# EAGLE library part IDC8_JTAG_PROZ (library useful)
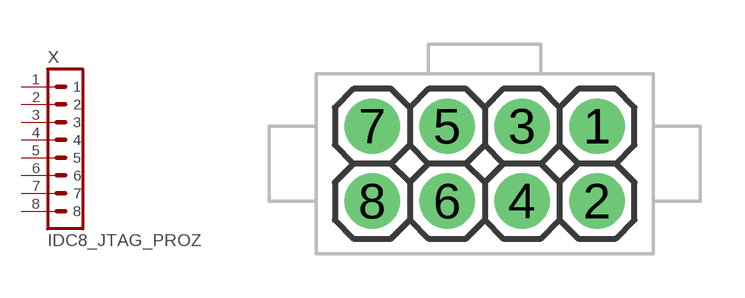
[diagram p3: symbol with the pads of 1X01; footprint 1X01]

Designator prefix X

## IDC8_JTAG_PROZ  [1X01]
1  1  pas
2  2  pas
3  3  pas
4  4  pas
5  5  pas
6  6  pas
7  7  pas
8  8  pas

## Footprint 1X01 (pad centres in mm)
drill 1 pad 1.88: 1 0,0; 2 0,-2.54; 3 -2.54,0; 4 -2.54,-2.54; 5 -5.08,0; 6 -5.08,-2.54; 7 -7.62,0; 8 -7.62,-2.54